# Altium footprint library IPC-7355 QFP_Rect_65P_Side_N.PcbLib: 1 footprints
Each footprint in its own frame and in the unit in brackets; x right, y up, seen from the top. Pads: shape width x height; smd on the part's side, far side on the other; paste and mask are expansions set on the pad; w line width, h text height; cw(c..) or ccw(c..) is an arc to the next point about the centre after c.
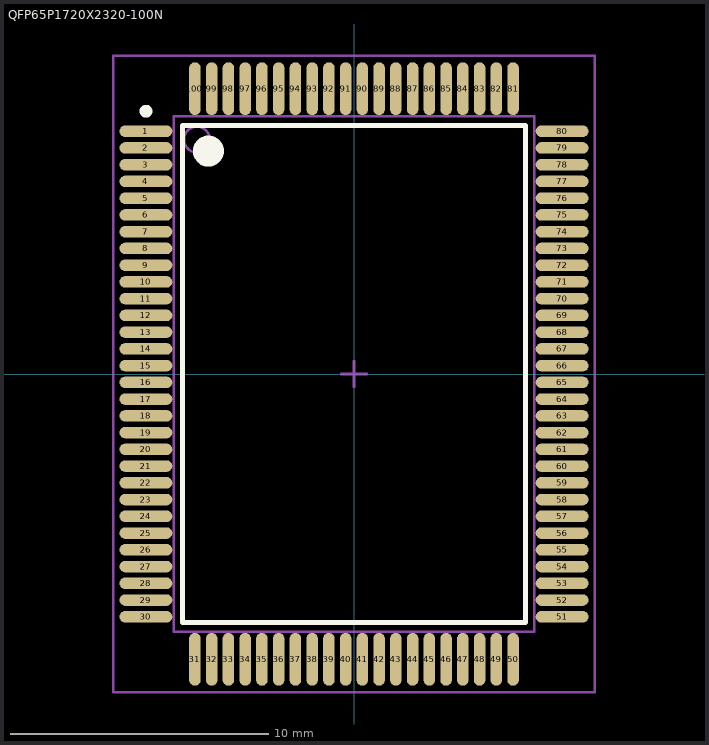
[diagram p0: the footprint, top view; thin cyan lines are the x and y axes]

## QFP65P1720X2320-100N [mm] "QFP, 100-Leads, Body 20x14mm, Pitch 0.65mm, IPC Medium Density"
height 2.45
pads (100):
  oval 2.05x0.45 smd: 1(-8.075,9.425) 2(-8.075,8.775) 3(-8.075,8.125) 4(-8.075,7.475) 5(-8.075,6.825) 6(-8.075,6.175) 7(-8.075,5.525) 8(-8.075,4.875) 9(-8.075,4.225) 10(-8.075,3.575) 11(-8.075,2.925) 12(-8.075,2.275) 13(-8.075,1.625) 14(-8.075,0.975) 15(-8.075,0.325) 16(-8.075,-0.325) 17(-8.075,-0.975) 18(-8.075,-1.625) 19(-8.075,-2.275) 20(-8.075,-2.925) 21(-8.075,-3.575) 22(-8.075,-4.225) 23(-8.075,-4.875) 24(-8.075,-5.525) 25(-8.075,-6.175) 26(-8.075,-6.825) 27(-8.075,-7.475) 28(-8.075,-8.125) 29(-8.075,-8.775) 30(-8.075,-9.425) 51(8.075,-9.425) 52(8.075,-8.775) 53(8.075,-8.125) 54(8.075,-7.475) 55(8.075,-6.825) 56(8.075,-6.175) 57(8.075,-5.525) 58(8.075,-4.875) 59(8.075,-4.225) 60(8.075,-3.575) 61(8.075,-2.925) 62(8.075,-2.275) 63(8.075,-1.625) 64(8.075,-0.975) 65(8.075,-0.325) 66(8.075,0.325) 67(8.075,0.975) 68(8.075,1.625) 69(8.075,2.275) 70(8.075,2.925) 71(8.075,3.575) 72(8.075,4.225) 73(8.075,4.875) 74(8.075,5.525) 75(8.075,6.175) 76(8.075,6.825) 77(8.075,7.475) 78(8.075,8.125) 79(8.075,8.775) 80(8.075,9.425)
  oval 0.45x2.05 smd: 31(-6.175,-11.075) 32(-5.525,-11.075) 33(-4.875,-11.075) 34(-4.225,-11.075) 35(-3.575,-11.075) 36(-2.925,-11.075) 37(-2.275,-11.075) 38(-1.625,-11.075) 39(-0.975,-11.075) 40(-0.325,-11.075) 41(0.325,-11.075) 42(0.975,-11.075) 43(1.625,-11.075) 44(2.275,-11.075) 45(2.925,-11.075) 46(3.575,-11.075) 47(4.225,-11.075) 48(4.875,-11.075) 49(5.525,-11.075) 50(6.175,-11.075) 81(6.175,11.075) 82(5.525,11.075) 83(4.875,11.075) 84(4.225,11.075) 85(3.575,11.075) 86(2.925,11.075) 87(2.275,11.075) 88(1.625,11.075) 89(0.975,11.075) 90(0.325,11.075) 91(-0.325,11.075) 92(-0.975,11.075) 93(-1.625,11.075) 94(-2.275,11.075) 95(-2.925,11.075) 96(-3.575,11.075) 97(-4.225,11.075) 98(-4.875,11.075) 99(-5.525,11.075) 100(-6.175,11.075)
Top Overlay:
  circle w0.25: c-8.075,10.2 r0.125
  circle w0.6: c-5.65,8.65 r0.3
  lines w0.2: -6.65,-9.65 -6.65,9.65 6.65,9.65 6.65,-9.65 -6.65,-9.65
Mechanical 13:
  circle w0.1: c-6.1,9.1 r0.5
  lines w0.1: -7,-10 -7,10 7,10 7,-10 -7,-10
Mechanical 15:
  lines w0.1: -0.5,0 0.5,0 ; 0,-0.5 0,0.5 ; -9.35,-12.35 -9.35,12.35 9.35,12.35 9.35,-12.35 -9.35,-12.35
3D body: height 2.45, standoff 0, extent -7,-10 7,10